# EAGLE library part TMM-103-XX-X-D (library con-samtec-tmm)
HEADER
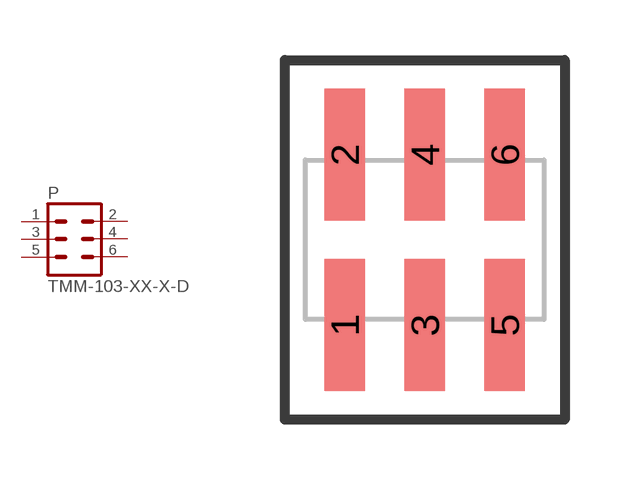
[diagram p0: symbol with the pads of TMM-103-XX-X-D; footprint TMM-103-XX-X-D]

Designator prefix P

## TMM-103-XX-X-D  [TMM-103-XX-X-D]
1  1  pas
2  2  pas
3  3  pas
4  4  pas
5  5  pas
6  6  pas

## Footprint TMM-103-XX-X-D (pad centres in mm)
HEADER
smd 1.02 x 3.3: 1 -2,-2.134; 2 -2,2.134; 3 0,-2.134; 4 0,2.134; 5 2,-2.134; 6 2,2.134